# EAGLE library part RS422_TRANSCEIVER_ISL83488 (library stepOSP)
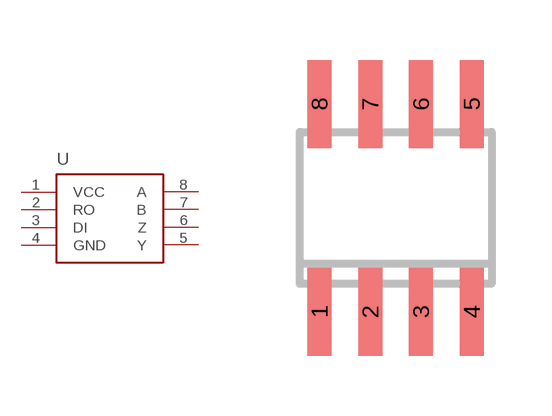
[diagram p40: symbol with the pads of SO-08; footprint SO-08]

Designator prefix -

## RS422_TRANSCEIVER_ISL83488  [SO-08]
1  VCC
2  RO
3  DI
4  GND
5  Y
6  Z
7  B
8  A

## Footprint SO-08 (pad centres in mm)
Small Outline Narrow Plastic Gull Wing 150-mil body, package type SN
smd 0.6 x 2.2: 1 -1.905,-2.6; 2 -0.635,-2.6; 3 0.635,-2.6; 4 1.905,-2.6; 5 1.905,2.6; 6 0.635,2.6; 7 -0.635,2.6; 8 -1.905,2.6